# Altium footprint library Connectors.PcbLib: 5 footprints
Each footprint in its own frame and in the unit in brackets; x right, y up, seen from the top. Pads: shape width x height; smd on the part's side, far side on the other; paste and mask are expansions set on the pad; w line width, h text height; cw(c..) or ccw(c..) is an arc to the next point about the centre after c.
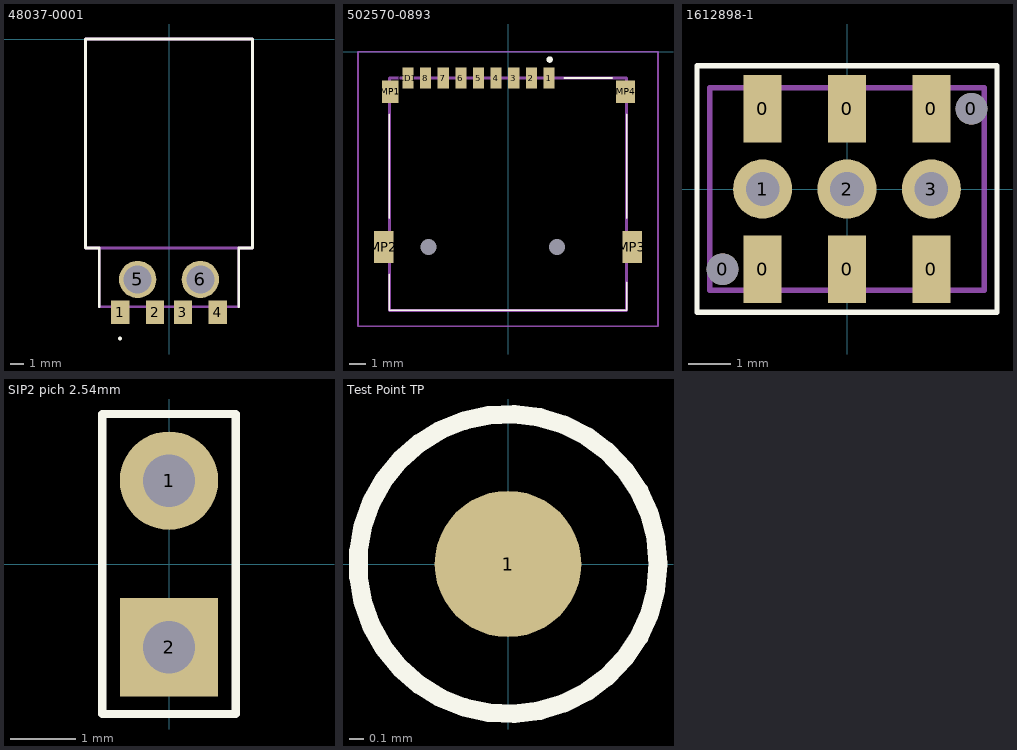
[diagram p0: the footprints below, top view; thin cyan lines are the x and y axes]

## 48037-0001 [mm]
pads (6):
  rect 1.3x1.7 smd: 1(-3.5,-19.6) 2(-1,-19.6) 3(1,-19.6) 4(3.5,-19.6)
  round 2.672 hole 2: 5(-2.25,-17.25) 6(2.25,-17.25)
Top Overlay:
  circle w0.2: c-3.512,-21.482 r0.041
  lines w0.2: -5,-19.209 -5,-15 -6,-15 -6,0 6,0 6,-15 5,-15 5,-19.209
Mechanical 13:
  lines w0.2: -5,-15.05 -5,-19.209 5,-19.209 5,-15.025 ; -6,-15 6,-15 6,0 -6,0 -6,-15
3D body "629004113921.stp": height 2.2, standoff -2.3, extent -6,-19.825 6,-0.025

## 502570-0893 [mm]
pads (15):
  rect 0.7x1.3 smd: 1(2.56,-1.64) 2(1.46,-1.64) 3(0.36,-1.64) 4(-0.74,-1.64) 5(-1.84,-1.64) 6(-2.94,-1.64) 7(-4.04,-1.64) 8(-5.14,-1.64) CD1(-6.24,-1.64)
  round 0.5 hole 1 unplated: 14(-4.95,-12.19) 15(3.05,-12.19)
  rect 1.022x1.4 smd: MP1(-7.34,-2.49)
  rect 1.2x2 smd: MP2(-7.76,-12.19) MP3(7.76,-12.19)
  rect 1.2x1.4 smd: MP4(7.34,-2.49)
Top Overlay:
  lines w0.1: -7.4,-13.89 -7.4,-16.14 7.4,-16.14 7.4,-14.39 ; -7.4,-10.39 -7.4,-3.89 ; 3.5,-1.64 6.5,-1.64 ; 7.4,-10.39 7.4,-3.89
  lines w0.2: 2.6,-0.59 cw(c2.6,-0.49) 2.6,-0.39 cw(c2.6,-0.49) 2.6,-0.59
Mechanical 13:
  lines w0.2: -7.4,-16.14 -7.4,-1.64 7.4,-1.64 7.4,-16.14 -7.4,-16.14
Mechanical 15:
  lines w0.1: -9.36,-17.14 -9.36,0.01 9.36,0.01 9.36,-17.14 -9.36,-17.14
3D body "TF-01A.stp": height 2.05, standoff -0.35, extent -8.804,-16.813 9.017,-0.713

## 1612898-1 [mm]
pads (11):
  round 0.75 hole 0.75: 0(-2.95,-1.9) 0(2.95,1.9)
  rect 0.9x1.6 smd: 0(-2,-1.9) 0(-2,1.9) 0(0,-1.9) 0(0,1.9) 0(2,-1.9) 0(2,1.9)
  round 1.4 hole 0.8: 1(-2,0) 2(0,0) 3(2,0)
Top Overlay:
  lines w0.127: -3.556,-2.921 -3.556,2.921 -2.667,2.921 3.556,2.921 3.556,-2.921 -3.556,-2.921
Mechanical 1:
  lines w0.127: -3.25,-2.4 3.25,-2.4 3.25,2.4 -3.25,2.4 -3.25,-2.4

## SIP2 pich 2.54mm [mm]
pads (2):
  round 1.5 hole 0.8: 1(0,1.27)
  rect 1.5x1.5 hole 0.8: 2(0,-1.27)
Top Overlay:
  lines w0.127: -1.016,-2.286 1.016,-2.286 1.016,2.286 0,2.286 -1.016,2.286 -1.016,-2.286

## Test Point TP [mm]
pads (1):
  round 1 smd mask+0.575: 1(0,0)
Top Overlay:
  circle w0.127: c0,0 r1.024